# EAGLE library part SW-LED (library CMU-ArtFab)
SWITCH PUSH SPST-NO 10MA 12V
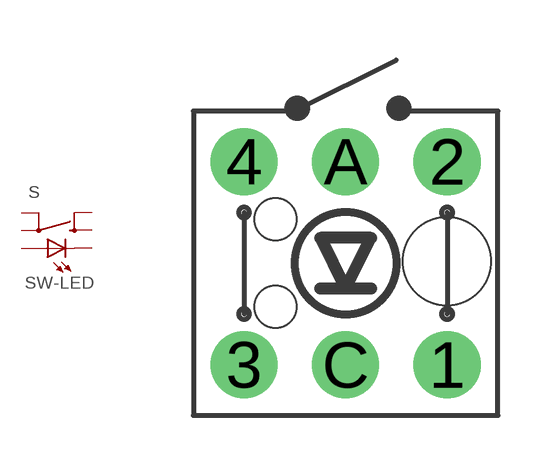
[diagram p22: symbol with the pads of SWITCH_TR2-MOMENTARY-LED; footprint SWITCH_TR2-MOMENTARY-LED]

Designator prefix S

## SW-LEDPTH  [SWITCH_TR2-MOMENTARY-LED]
1  1  pas
2  2  pas
3  3  pas
4  4  pas
A  A  pas
C  C  pas

## Footprint SWITCH_TR2-MOMENTARY-LED (pad centres in mm)
drill 0.8 pad 1.676: 1 2.54,-2.54; 2 2.54,2.54; 3 -2.54,-2.54; 4 -2.54,2.54; A 0,2.54; C 0,-2.54
hole 2.2 at 2.53,0.05
hole 1.05 at -1.76,1.1
hole 1.05 at -1.76,-1.09